# Altium schematic symbol library FPV1006-150-R.SchLib: 1 symbol
Pins are listed as number, name and electrical type; pins without a type are passive.

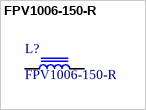
[diagram p0: symbol FPV1006-150-R]

## FPV1006-150-R
designator L?
FIXED IND 150NH 25A 0.41 MOHM
pins: 1, 2